# Altium schematic symbol library RKB2SJG250SMTR_LFS.SchLib: 1 symbol
Pins are listed as number, name and electrical type; pins without a type are passive.

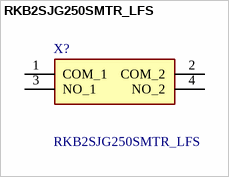
[diagram p0: symbol RKB2SJG250SMTR_LFS]

## RKB2SJG250SMTR_LFS
designator X?
Tactile Switches J Bend SMT Term 400gf Force; Manufacturer_Name: C & K COMPONENTS; Manufacturer_Part_Number: RKB2SJG250SMTR LFS; Geometry.Height: 2.7mm; Mouser Part Number: 611-RKB2SJG250SMTRLF; Mouser Price/Stock: https://www.mouser.co.uk/ProductDetail/CK/RKB2SJG250SMTR-LFS?qs=iLbezkQI%252Bsgsc0TY%2FPaT8A%3D%3D; Datasheet Link: https://www.ckswitches.com/media/3130/ck_rk_datasheet.pdf
footprint RKB2SJG250SMTRLFS
pins: 1 COM_1, 2 COM_2, 3 NO_1, 4 NO_2